# Altium footprint library EISI.PcbLib: 695 footprints (part 40 of 44)
Each footprint in its own frame and in the unit in brackets; x right, y up, seen from the top. Pads: shape width x height; smd on the part's side, far side on the other; paste and mask are expansions set on the pad; w line width, h text height; cw(c..) or ccw(c..) is an arc to the next point about the centre after c.
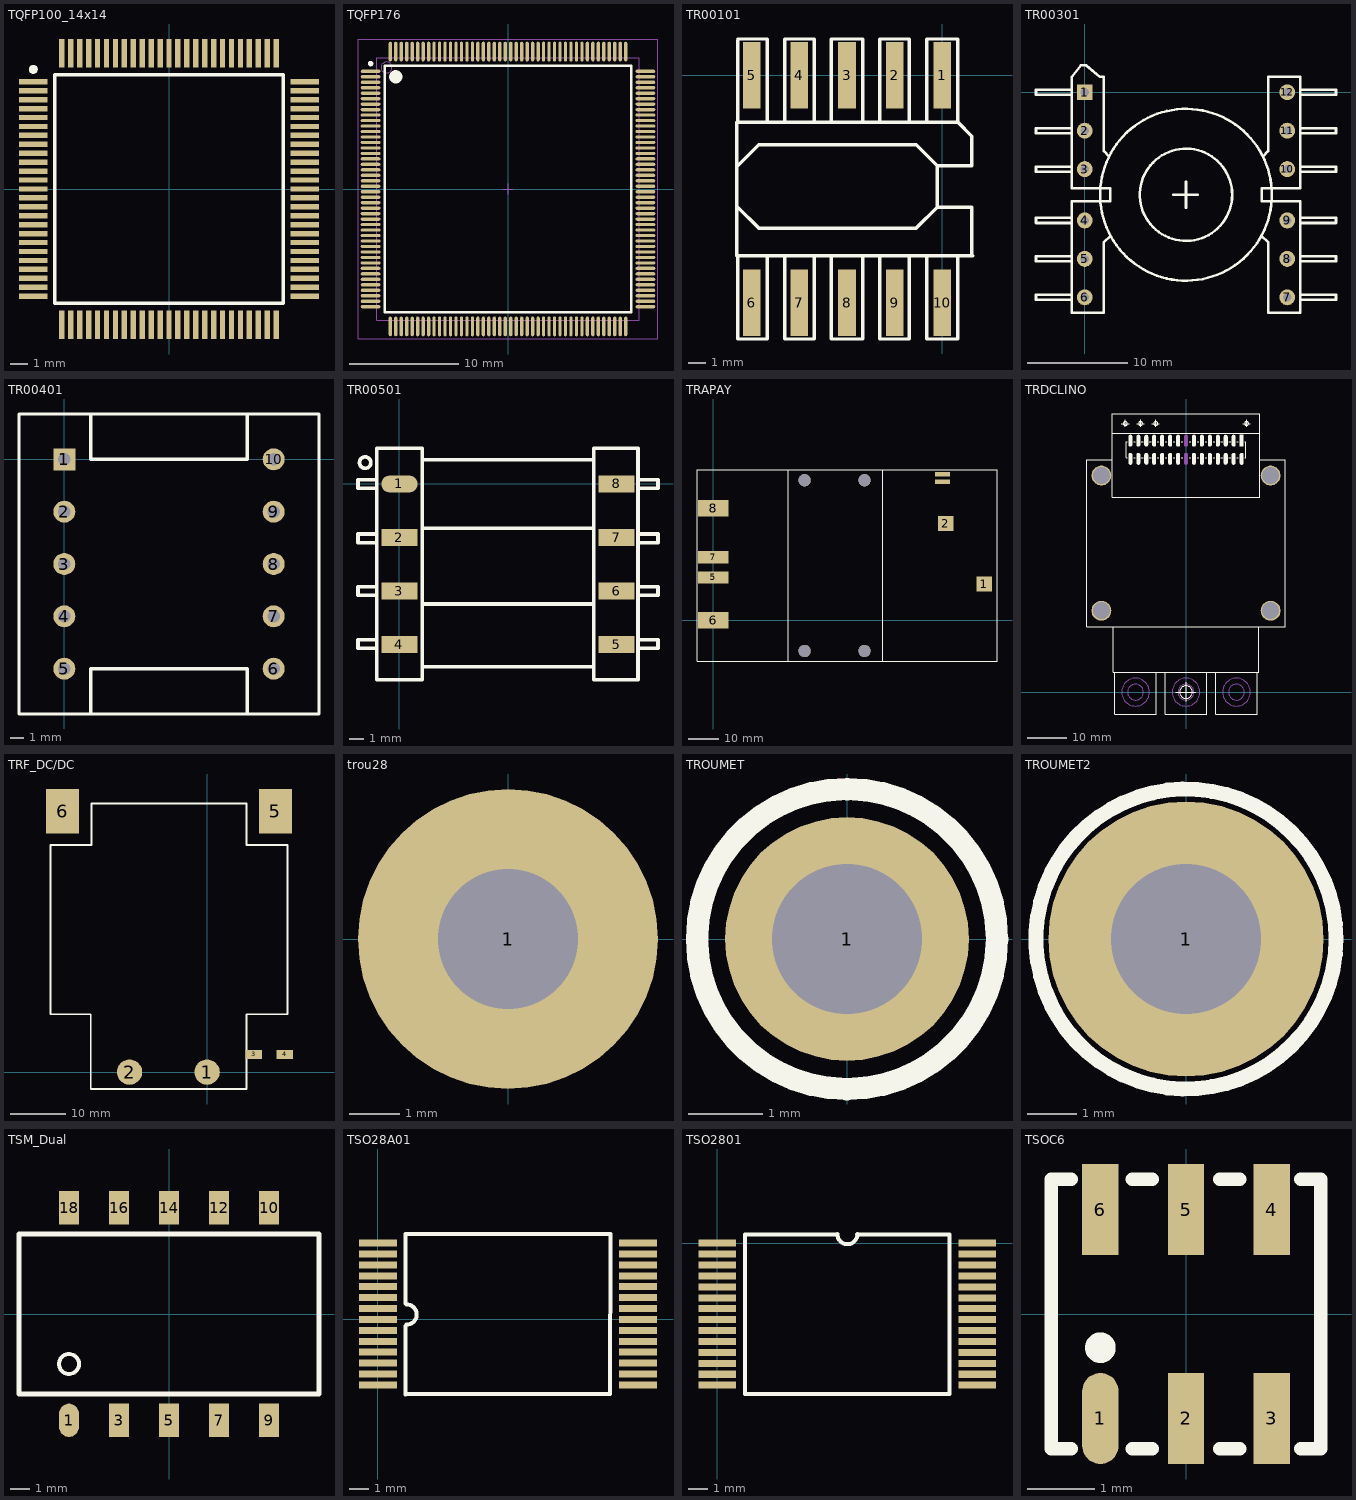
[diagram p39: the footprints below, top view; thin cyan lines are the x and y axes]

## TQFP100_14x14 [mm] "100-Pin Plastic Quad Flat Pack (TQFP) Analog Devices"
height 1.6
pads (100):
  rect 1.6x0.3 smd: 1(-7.6,6) 2(-7.6,5.5) 3(-7.6,5) 4(-7.6,4.5) 5(-7.6,4) 6(-7.6,3.5) 7(-7.6,3) 8(-7.6,2.5) 9(-7.6,2) 10(-7.6,1.5) 11(-7.6,1) 12(-7.6,0.5) 13(-7.6,0) 14(-7.6,-0.5) 15(-7.6,-1) 16(-7.6,-1.5) 17(-7.6,-2) 18(-7.6,-2.5) 19(-7.6,-3) 20(-7.6,-3.5) 21(-7.6,-4) 22(-7.6,-4.5) 23(-7.6,-5) 24(-7.6,-5.5) 25(-7.6,-6) 51(7.6,-6) 52(7.6,-5.5) 53(7.6,-5) 54(7.6,-4.5) 55(7.6,-4) 56(7.6,-3.5) 57(7.6,-3) 58(7.6,-2.5) 59(7.6,-2) 60(7.6,-1.5) 61(7.6,-1) 62(7.6,-0.5) 63(7.6,0) 64(7.6,0.5) 65(7.6,1) 66(7.6,1.5) 67(7.6,2) 68(7.6,2.5) 69(7.6,3) 70(7.6,3.5) 71(7.6,4) 72(7.6,4.5) 73(7.6,5) 74(7.6,5.5) 75(7.6,6)
  rect 0.3x1.6 smd: 26(-6,-7.6) 27(-5.5,-7.6) 28(-5,-7.6) 29(-4.5,-7.6) 30(-4,-7.6) 31(-3.5,-7.6) 32(-3,-7.6) 33(-2.5,-7.6) 34(-2,-7.6) 35(-1.5,-7.6) 36(-1,-7.6) 37(-0.5,-7.6) 38(0,-7.6) 39(0.5,-7.6) 40(1,-7.6) 41(1.5,-7.6) 42(2,-7.6) 43(2.5,-7.6) 44(3,-7.6) 45(3.5,-7.6) 46(4,-7.6) 47(4.5,-7.6) 48(5,-7.6) 49(5.5,-7.6) 50(6,-7.6) 76(6,7.6) 77(5.5,7.6) 78(5,7.6) 79(4.5,7.6) 80(4,7.6) 81(3.5,7.6) 82(3,7.6) 83(2.5,7.6) 84(2,7.6) 85(1.5,7.6) 86(1,7.6) 87(0.5,7.6) 88(0,7.6) 89(-0.5,7.6) 90(-1,7.6) 91(-1.5,7.6) 92(-2,7.6) 93(-2.5,7.6) 94(-3,7.6) 95(-3.5,7.6) 96(-4,7.6) 97(-4.5,7.6) 98(-5,7.6) 99(-5.5,7.6) 100(-6,7.6)
TopOverlay:
  circle w0.25: c-7.6,6.7 r0.125
  lines w0.2: -6.4,-6.4 6.4,-6.4 6.4,6.4 -6.4,6.4 -6.4,-6.4

## TQFP176 [mm] "176-Pin Thin Quad Flat Pack 0.5 mm Pitch, IPC Medium Density"
height 1.6
pads (176):
  oval 1.8x0.3 smd: 1(-12.55,10.75) 2(-12.55,10.25) 3(-12.55,9.75) 4(-12.55,9.25) 5(-12.55,8.75) 6(-12.55,8.25) 7(-12.55,7.75) 8(-12.55,7.25) 9(-12.55,6.75) 10(-12.55,6.25) 11(-12.55,5.75) 12(-12.55,5.25) 13(-12.55,4.75) 14(-12.55,4.25) 15(-12.55,3.75) 16(-12.55,3.25) 17(-12.55,2.75) 18(-12.55,2.25) 19(-12.55,1.75) 20(-12.55,1.25) 21(-12.55,0.75) 22(-12.55,0.25) 23(-12.55,-0.25) 24(-12.55,-0.75) 25(-12.55,-1.25) 26(-12.55,-1.75) 27(-12.55,-2.25) 28(-12.55,-2.75) 29(-12.55,-3.25) 30(-12.55,-3.75) 31(-12.55,-4.25) 32(-12.55,-4.75) 33(-12.55,-5.25) 34(-12.55,-5.75) 35(-12.55,-6.25) 36(-12.55,-6.75) 37(-12.55,-7.25) 38(-12.55,-7.75) 39(-12.55,-8.25) 40(-12.55,-8.75) 41(-12.55,-9.25) 42(-12.55,-9.75) 43(-12.55,-10.25) 44(-12.55,-10.75) 89(12.55,-10.75) 90(12.55,-10.25) 91(12.55,-9.75) 92(12.55,-9.25) 93(12.55,-8.75) 94(12.55,-8.25) 95(12.55,-7.75) 96(12.55,-7.25) 97(12.55,-6.75) 98(12.55,-6.25) 99(12.55,-5.75) 100(12.55,-5.25) 101(12.55,-4.75) 102(12.55,-4.25) 103(12.55,-3.75) 104(12.55,-3.25) 105(12.55,-2.75) 106(12.55,-2.25) 107(12.55,-1.75) 108(12.55,-1.25) 109(12.55,-0.75) 110(12.55,-0.25) 111(12.55,0.25) 112(12.55,0.75) 113(12.55,1.25) 114(12.55,1.75) 115(12.55,2.25) 116(12.55,2.75) 117(12.55,3.25) 118(12.55,3.75) 119(12.55,4.25) 120(12.55,4.75) 121(12.55,5.25) 122(12.55,5.75) 123(12.55,6.25) 124(12.55,6.75) 125(12.55,7.25) 126(12.55,7.75) 127(12.55,8.25) 128(12.55,8.75) 129(12.55,9.25) 130(12.55,9.75) 131(12.55,10.25) 132(12.55,10.75)
  oval 0.3x1.8 smd: 45(-10.75,-12.55) 46(-10.25,-12.55) 47(-9.75,-12.55) 48(-9.25,-12.55) 49(-8.75,-12.55) 50(-8.25,-12.55) 51(-7.75,-12.55) 52(-7.25,-12.55) 53(-6.75,-12.55) 54(-6.25,-12.55) 55(-5.75,-12.55) 56(-5.25,-12.55) 57(-4.75,-12.55) 58(-4.25,-12.55) 59(-3.75,-12.55) 60(-3.25,-12.55) 61(-2.75,-12.55) 62(-2.25,-12.55) 63(-1.75,-12.55) 64(-1.25,-12.55) 65(-0.75,-12.55) 66(-0.25,-12.55) 67(0.25,-12.55) 68(0.75,-12.55) 69(1.25,-12.55) 70(1.75,-12.55) 71(2.25,-12.55) 72(2.75,-12.55) 73(3.25,-12.55) 74(3.75,-12.55) 75(4.25,-12.55) 76(4.75,-12.55) 77(5.25,-12.55) 78(5.75,-12.55) 79(6.25,-12.55) 80(6.75,-12.55) 81(7.25,-12.55) 82(7.75,-12.55) 83(8.25,-12.55) 84(8.75,-12.55) 85(9.25,-12.55) 86(9.75,-12.55) 87(10.25,-12.55) 88(10.75,-12.55) 133(10.75,12.55) 134(10.25,12.55) 135(9.75,12.55) 136(9.25,12.55) 137(8.75,12.55) 138(8.25,12.55) 139(7.75,12.55) 140(7.25,12.55) 141(6.75,12.55) 142(6.25,12.55) 143(5.75,12.55) 144(5.25,12.55) 145(4.75,12.55) 146(4.25,12.55) 147(3.75,12.55) 148(3.25,12.55) 149(2.75,12.55) 150(2.25,12.55) 151(1.75,12.55) 152(1.25,12.55) 153(0.75,12.55) 154(0.25,12.55) 155(-0.25,12.55) 156(-0.75,12.55) 157(-1.25,12.55) 158(-1.75,12.55) 159(-2.25,12.55) 160(-2.75,12.55) 161(-3.25,12.55) 162(-3.75,12.55) 163(-4.25,12.55) 164(-4.75,12.55) 165(-5.25,12.55) 166(-5.75,12.55) 167(-6.25,12.55) 168(-6.75,12.55) 169(-7.25,12.55) 170(-7.75,12.55) 171(-8.25,12.55) 172(-8.75,12.55) 173(-9.25,12.55) 174(-9.75,12.55) 175(-10.25,12.55) 176(-10.75,12.55)
TopOverlay:
  circle w0.25: c-12.55,11.45 r0.125
  circle w0.6: c-10.25,10.25 r0.3
  lines w0.2: -11.25,-11.25 -11.25,11.25 11.25,11.25 11.25,-11.25 -11.25,-11.25
Mechanical13:
  circle w0.1: c-11.1,11.1 r0.5
  lines w0.1: -12,-12 -12,12 12,12 12,-12 -12,-12
Mechanical15:
  lines w0.1: -0.5,0 0.5,0 ; 0,-0.5 0,0.5 ; -13.7,-13.7 -13.7,13.7 13.7,13.7 13.7,-13.7 -13.7,-13.7
3D body: height 1.6, standoff 0, extent -12,-12 12,12

## TR00101 [mil]
pads (10):
  rect 40x151 smd: 1(0,0) 2(-108.27,0) 3(-216.54,0) 4(-324.8,0) 5(-433.07,0) 6(-433.07,-515.75) 7(-324.8,-515.75) 8(-216.54,-515.75) 9(-108.27,-515.75) 10(0,-515.75)
TopOverlay:
  lines w7.87: -464.57,-409.45 -464.57,-598.43 -397.64,-598.43 -397.64,-409.45 ; -464.57,-299.21 -417.32,-346.46 -59.06,-346.46 -11.81,-299.21 ; -464.57,-204.72 -417.32,-157.48 -59.06,-157.48 -11.81,-204.72 ; -464.57,-106.3 -464.57,78.74 ; -464.57,82.68 -397.64,82.68 -397.64,-106.3 ; -358.27,-409.45 -358.27,-598.43 -291.34,-598.43 -291.34,-409.45 ; -358.27,-106.3 -358.27,82.68 -291.34,82.68 -291.34,-106.3 ; -251.97,-409.45 -251.97,-598.43 -181.1,-598.43 -181.1,-409.45 ; -251.97,-106.3 -251.97,82.68 -181.1,82.68 -181.1,-106.3 ; -141.73,-409.45 -141.73,-598.43 -74.8,-598.43 -74.8,-409.45 ; -141.73,-106.3 -141.73,82.68 -74.8,82.68 -74.8,-106.3 ; -35.43,-409.45 -35.43,-598.43 35.43,-598.43 35.43,-409.45 ; -35.43,-106.3 -35.43,82.68 35.43,82.68 35.43,-106.3 ; 66.93,-409.45 66.93,-299.21 -11.81,-299.21 ; 68.9,-409.45 -466.54,-409.45 -466.54,-106.3 35.43,-106.3 ; -11.81,-299.21 -11.81,-204.72 ; -11.81,-204.72 66.93,-204.72 66.93,-137.8 35.43,-106.3

## TR00301 [mil]
pads (12):
  rect 62x62 hole 32: 1(0,0)
  round 62 hole 32: 2(0,-150) 3(0,-300) 4(0,-500) 5(0,-650) 6(0,-800) 7(790,-800) 8(790,-650) 9(790,-500) 10(790,-300) 11(790,-150) 12(790,0)
TopOverlay:
  circle w10: c395,-400 r335
  circle w10: c395,-400 r180
  lines w10: -50,-810 -190,-810 -190,-790 -50,-790 ; -50,-660 -190,-660 -190,-640 -50,-640 ; -50,-510 -190,-510 -190,-490 -50,-490 ; -50,-310 -190,-310 -190,-290 -50,-290 ; -50,-160 -190,-160 -190,-140 -50,-140 ; -50,-10 -190,-10 -190,10 -50,10 ; 95,-250 75,-230 75,60 60,60 5,105 -15,105 -50,60 -50,-375 60,-375 100,-375 100,-425 60,-425 -50,-425 -50,-860 75,-860 75,-585 100,-560 ; 345,-400 440,-400 ; 395,-450 395,-350 ; 690,-560 715,-585 715,-860 840,-860 840,-425 730,-425 690,-425 690,-375 730,-375 840,-375 840,60 715,60 715,-230 695,-250 ; 840,-810 980,-810 980,-790 840,-790 ; 840,-660 980,-660 980,-640 840,-640 ; 840,-510 980,-510 980,-490 840,-490 ; 840,-310 980,-310 980,-290 840,-290 ; 840,-160 980,-160 980,-140 840,-140 ; 840,-10 980,-10 980,10 840,10

## TR00401 [mm]
pads (10):
  rect 1.6x1.6 hole 0.9: 1(0,0)
  round 1.6 hole 0.9: 2(0,-3.81) 3(0,-7.62) 4(0,-11.43) 5(0,-15.24) 6(15.24,-15.24) 7(15.24,-11.43) 8(15.24,-7.62) 9(15.24,-3.81) 10(15.24,0)
TopOverlay:
  lines w0.254: 1.905,-18.542 1.905,-15.24 13.335,-15.24 13.335,-18.542 ; 1.905,3.302 1.905,0 13.335,0 13.335,3.302 ; -3.302,-18.542 18.542,-18.542 18.542,3.302 -3.302,3.302 -3.302,-18.542

## TR00501 [mm]
pads (8):
  oval 2.54x1.194 smd: 1(0,0)
  rect 2.54x1.194 smd: 2(0,-3.75) 3(0,-7.5) 4(0,-11.25) 5(15.2,-11.25) 6(15.2,-7.5) 7(15.2,-3.75) 8(15.2,0)
TopOverlay:
  circle w0.254: c-2.4,1.5 r0.4
  lines w0.254: -1.6,-11.5 -2.9,-11.5 -2.9,-10.9 -1.6,-10.9 ; -1.6,-7.8 -2.9,-7.8 -2.9,-7.2 -1.6,-7.2 ; -1.6,-4.1 -2.9,-4.1 -2.9,-3.5 -1.6,-3.5 ; -1.6,-0.3 -2.9,-0.3 -2.9,0.3 -1.6,0.3 ; 1.6,-12.8 13.6,-12.8 ; 1.6,-8.4 13.6,-8.4 ; 1.6,-3.1 13.6,-3.1 ; 1.6,1.7 13.6,1.7 ; 16.8,-11.5 18.1,-11.5 18.1,-10.9 16.8,-10.9 ; 16.8,-7.8 18.1,-7.8 18.1,-7.2 16.8,-7.2 ; 16.8,-4.1 18.1,-4.1 18.1,-3.5 16.8,-3.5 ; 16.8,-0.3 18.1,-0.3 18.1,0.3 16.8,0.3 ; -1.6,-13.7 -1.6,2.5 1.6,2.5 1.6,-13.7 -1.6,-13.7 ; 13.6,-13.7 13.6,2.5 16.7,2.5 16.7,-13.7 13.6,-13.7

## TRAPAY [mil]
pads (12):
  rect 200x200 smd: 1(3563,475) 2(3057,1271)
  rect 200x60 smd: 3(3015,1819) 4(3015,1919)
  rect 400x160 smd: 5(0,562) 7(0,828)
  rect 400x220 smd: 6(0,0) 8(0,1472)
  round 161 hole 161: ""(1200,-404) ""(1200,1840) ""(1987,-404) ""(1987,1840)
TopOverlay:
  lines w10: 985,-540 985,1980 ; 2225,-540 2225,1980 ; -215,-540 3730,-540 3730,1980 -215,1980 -215,-540

## TRDCLINO [mm]
pads (34):
  rect 1.02x3.02 on Top Overlay: 1(14,63.275)
  oval 1.02x3.02 on Top Overlay: 2(14,58.718) 3(12,63.275) 4(12,58.725) 5(10,63.275) 6(10,58.725) 7(8,63.275) 8(8,58.725) 9(6,63.275) 10(6,58.725) 11(4,63.275) 12(4,58.725) 13(2,63.275) 14(2,58.725) 17(-2,63.275) 18(-2,58.725) 19(-4,63.275) 20(-4,58.725) 21(-6,63.275) 22(-6,58.725) 23(-8,63.275) 24(-8,58.725) 25(-10,63.275) 26(-10,58.725) 27(-12,63.275) 28(-12,58.725) 29(-14,63.275) 30(-14,58.725)
  oval 1.02x3.02 on Mech3: 15(0,63.275) 16(0,58.725)
  round 5 hole 4.3: ""(-21.3,20.5) ""(-21.3,54.5) ""(21.3,20.5) ""(21.3,54.5)
TopOverlay:
  circle w0.254: c15.25,67.6 r0.5
  circle w0.254: c-7.625,67.6 r0.5
  circle w0.254: c-11.425,67.6 r0.5
  circle w0.254: c-15.25,67.6 r0.5
  circle w0.254: c0,0 r1.6
  lines w0.15: -18.6,65.175 18.6,65.2
  lines w0.2: -14.8,59 -15,59 -15,63 -14.8,63 ; -13.2,59 -12.8,59 ; -13.2,63 -12.8,63 ; -11.2,59 -10.8,59 ; -11.2,63 -10.8,63 ; -9.2,59 -8.8,59 ; -9.2,63 -8.8,63 ; -7.2,59 -6.8,59 ; -7.2,63 -6.8,63 ; -5.2,59 -4.8,59 ; -5.2,63 -4.8,63 ; -3.2,59 -2.8,59 ; -3.2,63 -2.8,63 ; -1.2,59 -0.8,59 ; -1.2,63 -0.8,63 ; 0.8,59 1.2,59 ; 0.8,63 1.2,63 ; 2.8,59 3.2,59 ; 2.8,63 3.2,63 ; 4.8,59 5.2,59 ; 4.8,63 5.2,63 ; 6.8,59 7.2,59 ; 6.8,63 7.2,63 ; 8.8,59 9.2,59 ; 8.8,63 9.2,63 ; 10.8,59 11.2,59 ; 10.8,63 11.2,63 ; 12.8,59 13.2,59 ; 12.8,63 13.2,63 ; 14.8,59 15,59 15,63 14.8,63
  lines w0.254: -18.25,16.5 -18.25,5 18.25,5 18.25,16.5 ; -17.925,5 -17.925,-5.5 -7.425,-5.5 -7.425,5 ; -16.25,67.6 -14.3,67.6 ; -15.25,66.775 -15.25,68.5 ; -12.425,67.6 -10.475,67.6 ; -11.425,66.775 -11.425,68.5 ; -8.625,67.6 -6.675,67.6 ; -7.625,66.775 -7.625,68.5 ; -5.225,5 -5.225,-5.5 5.275,-5.5 5.275,5 ; -2.6,0 2.4,0 ; 0,-2.3 0,2.5 ; 7.475,5 7.475,-5.5 17.975,-5.5 17.975,5 ; 14.25,67.6 16.2,67.6 ; 15.25,66.775 15.25,68.5 ; -18.6,58.5 -25,58.5 -25,16.5 25,16.5 25,58.5 18.6,58.5 ; -18.6,58.5 -18.6,49 18.6,49 18.6,58.5 ; -18.6,58.5 -18.6,70 18.6,70 18.6,58.5
Mechanical4:
  circle w0.305: c-12.7,0 r2
  circle w0.305: c-12.7,0 r3.5
  circle w0.305: c0,0 r2
  circle w0.305: c0,0 r3.5
  circle w0.305: c12.7,0 r2
  circle w0.305: c12.7,0 r3.5

## TRF_DC/DC [mil]
pads (6):
  round 180 smd: 1(0,0) 2(-550,0)
  rect 118x62 smd: 3(330,125) 4(550,125)
  rect 236x315 smd: 5(485,1850) 6(-1025,1850)
TopOverlay:
  lines w12: -1110,410 -825,410 -825,-120 280,-120 280,410 570,410 570,1610 280,1610 280,1905 -820,1905 -820,1610 -1110,1610 -1110,410

## trou28 [mm] "trou 28mm pad 60mm"
pads (1):
  round 6 hole 2.8: 1(0,0)

## TROUMET [mil]
pads (1):
  round 130 hole 80: 1(0,0)
TopOverlay:
  circle w12: c0,0 r80

## TROUMET2 [mil]
pads (1):
  round 220 hole 120: 1(0,0)
TopOverlay:
  circle w12: c0,0 r120

## TSM_Dual [mm] "DC/DC Traco TSM dual"
height 7.8
pads (10):
  oval 1x1.7 smd: 1(-5.08,-5.4)
  rect 1x1.7 smd: 3(-2.54,-5.4) 5(0,-5.4) 7(2.54,-5.4) 9(5.08,-5.4) 10(5.08,5.4) 12(2.54,5.4) 14(0,5.4) 16(-2.54,5.4) 18(-5.08,5.4)
TopOverlay:
  circle w0.2: c-5.08,-2.54 r0.508
  lines w0.25: -7.62,-4.064 7.62,-4.064 7.62,4.064 -7.62,4.064 -7.62,-4.064

## TSO28A01 [mm]
pads (28):
  rect 1.905x0.356 smd: 1(0,0) 2(0,-0.55) 3(0,-1.1) 4(0,-1.65) 5(0,-2.2) 6(0,-2.75) 7(0,-3.3) 8(13.1,-3.3) 9(13.1,-2.75) 10(13.1,-2.2) 11(13.1,-1.65) 12(13.1,-1.1) 13(13.1,-0.55) 14(13.1,0) 15(13.1,0.55) 16(13.1,1.1) 17(13.1,1.65) 18(13.1,2.2) 19(13.1,2.75) 20(13.1,3.3) 21(13.1,3.85) 22(0,3.85) 23(0,3.3) 24(0,2.75) 25(0,2.2) 26(0,1.65) 27(0,1.1) 28(0,0.55)
TopOverlay:
  lines w0.2: 1.397,-3.77 1.397,-0.341 ; 1.397,0.802 1.397,4.231 ; 1.397,4.307 7.061,4.307 11.709,4.307 11.7,-3.75 1.4,-3.75
  lines w0.203: 1.443,-0.26 ccw(c1.443,0.248) 1.443,0.756
TopSolder:
  rectangle: -1.003,-3.529 1.002,4.08
  rectangle: 12.093,-3.531 14.107,4.081

## TSO2801 [mm]
pads (28):
  rect 1.905x0.356 smd: 1(0,0) 2(0,-0.55) 3(0,-1.1) 4(0,-1.65) 5(0,-2.2) 6(0,-2.75) 7(0,-3.3) 8(0,-3.85) 9(0,-4.4) 10(0,-4.95) 11(0,-5.5) 12(0,-6.05) 13(0,-6.6) 14(0,-7.15) 15(13.1,-7.15) 16(13.1,-6.6) 17(13.1,-6.05) 18(13.1,-5.5) 19(13.1,-4.95) 20(13.1,-4.4) 21(13.1,-3.85) 22(13.1,-3.3) 23(13.1,-2.75) 24(13.1,-2.2) 25(13.1,-1.65) 26(13.1,-1.1) 27(13.1,-0.55) 28(13.1,0)
TopOverlay:
  lines w0.2: 6.05,0.45 1.4,0.45 1.4,-7.6 11.7,-7.6 11.7,0.45 7.05,0.45
  lines w0.203: 6.05,0.462 ccw(c6.558,0.462) 7.066,0.462
TopSolder:
  rectangle: 12.09,-7.391 14.097,0.229
  rectangle: -1.016,-7.391 0.991,0.229

## TSOC6 [mm]
height 1.5
pads (6):
  oval 0.54x1.35 smd: 1(-1.27,-1.55)
  rect 0.54x1.35 smd: 2(0,-1.55) 3(1.27,-1.55) 4(1.27,1.55) 5(0,1.55) 6(-1.27,1.55)
TopOverlay:
  circle w0.254: c-1.27,-0.5 r0.1
  lines w0.2: -1.7,-2 -2,-2 -2,2 -1.7,2 ; -0.8,-2 -0.5,-2 ; -0.8,2 -0.5,2 ; 0.5,-2 0.8,-2 ; 0.5,2 0.8,2 ; 1.7,-2 2,-2 2,2 1.7,2